# Altium footprint library ATM90E3x-DB.PcbLib: 32 footprints (part 1 of 2)
Each footprint in its own frame and in the unit in brackets; x right, y up, seen from the top. Pads: shape width x height; smd on the part's side, far side on the other; paste and mask are expansions set on the pad; w line width, h text height; cw(c..) or ccw(c..) is an arc to the next point about the centre after c.
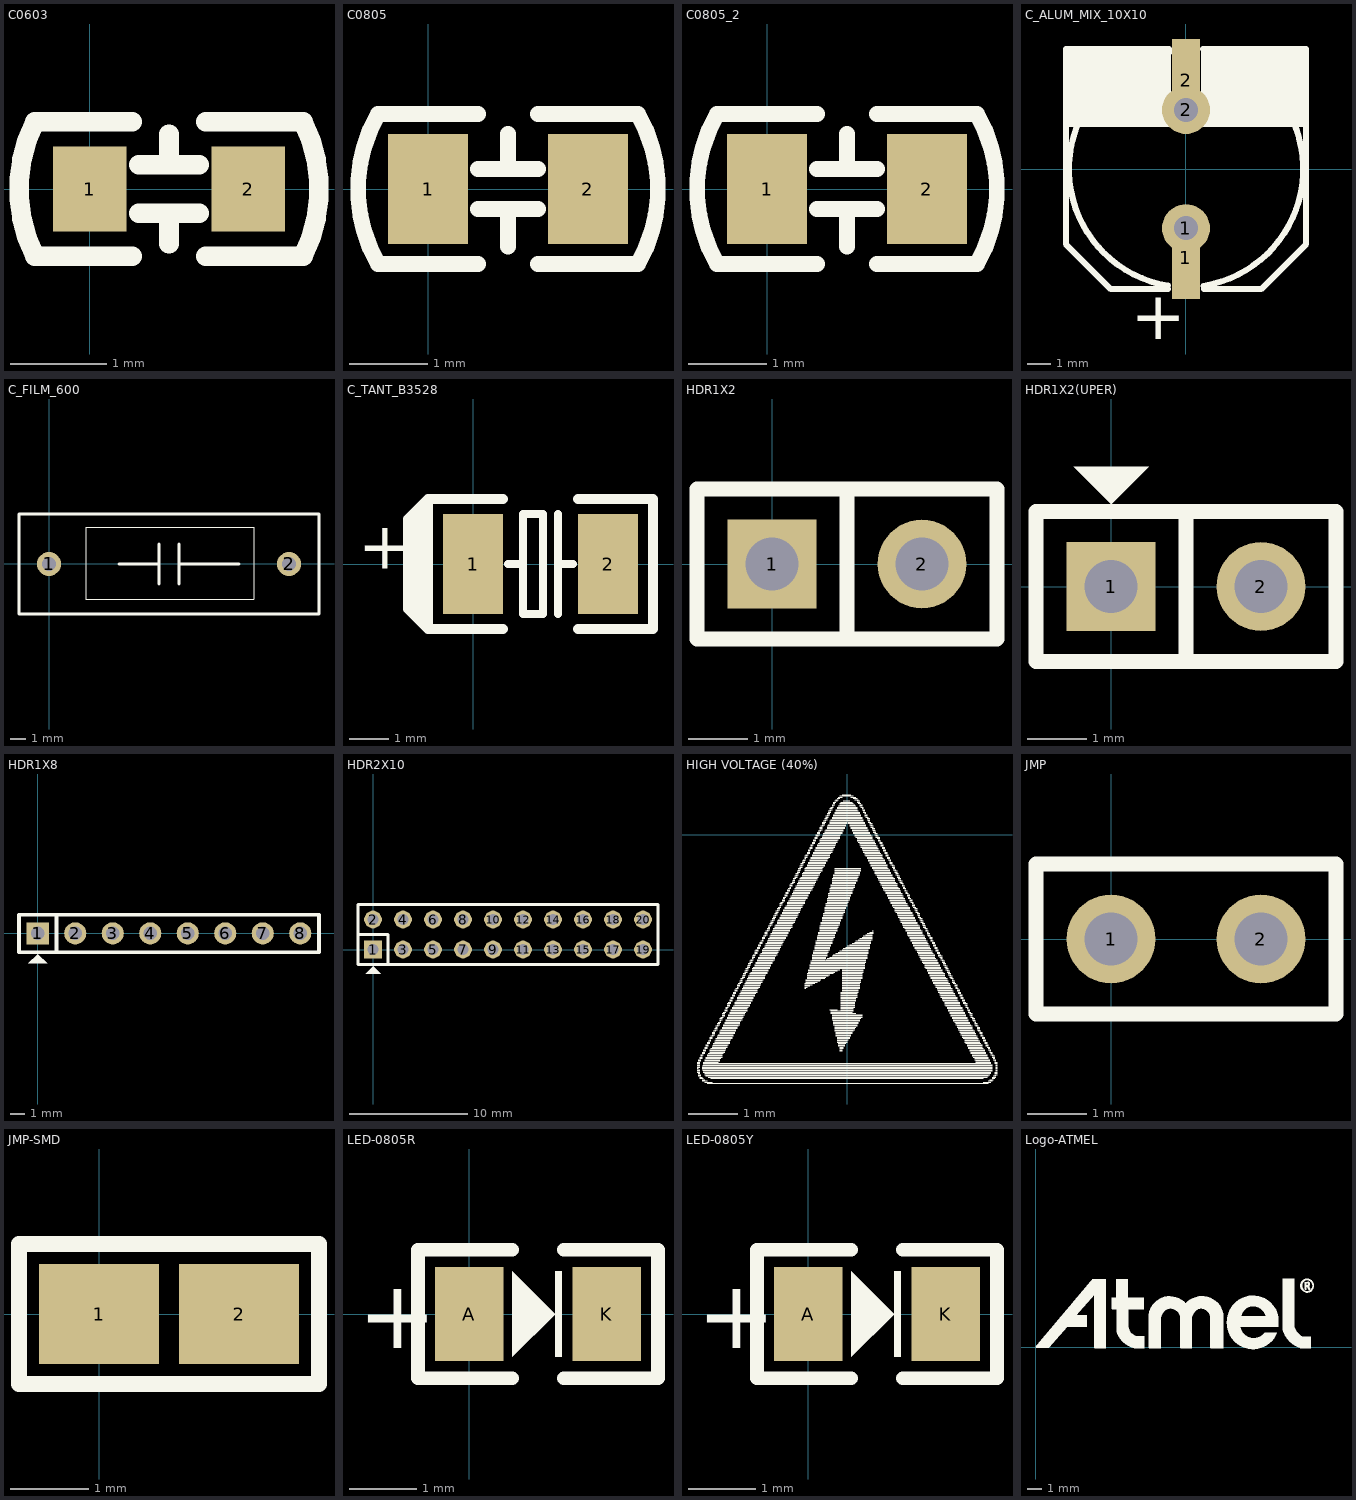
[diagram p0: the footprints below, top view; thin cyan lines are the x and y axes]

## C0603 [mil] "C0603"
height 62.99
pads (2):
  rect 30x35 smd: 1(0,0) 2(65,0)
Top Overlay:
  lines w8: 17.5,-27.5 -22.5,-27.5 cw(c32.5,0) -22.5,27.5 17.5,27.5 ; 20,-10 45,-10 ; 20,10 45,10 ; 32.5,-22.5 32.5,-10 ; 32.5,10 32.5,22.5 ; 47.5,-27.5 87.5,-27.5 ccw(c32.5,0) 87.5,27.5 47.5,27.5
3D body "User Library-CAPC1608X09.step": height 35.43, standoff 0, extent 1,-15.75 64,15.75

## C0805 [mil] "C0805"
height 62.99
pads (2):
  rect 40x55 smd: 1(0,0) 2(80,0)
Top Overlay:
  lines w8: 25,-37.5 -25,-37.5 cw(c40,0) -25,37.5 25,37.5 ; 25,-10 55,-10 ; 25,10 55,10 ; 40,-28.75 40,-11.25 ; 40,10 40,27.5 ; 55,-37.5 105,-37.5 ccw(c40,0) 105,37.5 55,37.5
3D body "User Library-CAPC2013X10.step": height 39.37, standoff 0, extent 0.64,-24.6 79.38,24.61

## C0805_2 [mil]
pads (2):
  rect 40x55 smd: 1(0,0) 2(80,0)
Top Overlay:
  lines w8: 25,-37.5 -25,-37.5 cw(c40,0) -25,37.5 25,37.5 ; 25,-10 55,-10 ; 25,10 55,10 ; 40,-28.75 40,-11.25 ; 40,10 40,27.5 ; 55,-37.5 105,-37.5 ccw(c40,0) 105,37.5 55,37.5
3D body "User Library-CAPC2013X10.step": height 39.37, standoff 0, extent 0.64,-24.6 79.38,24.61

## C_ALUM_MIX_10X10 [mil] "C_ALUM_MIX_10x10"
height 62.99
pads (4):
  rect 47.25x137.79 smd: 1(0,-147.64) 2(0,147.64)
  round 80 hole 40: 1(0,-98.43) 2(0,98.43)
Top Overlay:
  region: 25,197.36 25,77.36 200,77.36 200,197.36
  region: -200,197.36 -200,77.36 -25,77.36 -25,197.36
  lines w10: -200,75 200,75 ; -30.26,-194.2 cw(c1.92,0) -27.21,194.68 ; -30,-200 -125,-200 -200,-125 -200,200 -28,200 ; 28,200 200,200 200,-125 125,-200 30,-200 ; 29.12,-194.43 ccw(c-1.66,0) 30.31,194.24
  text "+" at -92.2,-282.99 h80
3D body "User Library-ALU-G.STEP": height 401.57, standoff 0, extent -202.75,-228.35 202.76,228.35

## C_FILM_600 [mil]
pads (2):
  round 60 hole 36: 1(0,0) 2(600,0)
Top Overlay:
  lines w1: 92,-88 92,92 512,92 512,-88 92,-88
  lines w8: 175,0 275,0 ; 275,-50 275,50 ; 325,-50 325,50 ; 325,0 475,0 ; -75,-125 -75,125 675,125 675,-125 -75,-125
3D body "User Library-Hua Jung MKP-224K0305AB1151-P.step": height 110.63, standoff -492.13, extent -54.33,-118.13 654.33,118.13

## C_TANT_B3528 [mil] "C_TANT_B3528"
height 62.99
pads (2):
  rect 60x100 smd: 1(0,0) 2(135,0)
Top Overlay:
  lines w8: 35,0 50,0 ; 85,-50 85,50 ; 85,0 100,0 ; 50,-50 50,50 70,50 70,-50 50,-50
  lines w10: 30,-65 -45,-65 ; 30,65 -45,65 ; 105,-65 180,-65 180,65 105,65 ; -45,-65 -65,-45 -65,-40 -65,40 -65,45 -45,65 ; -45,-65 -45,65
  lines w16: -55,-50 -55,50
  text "+" at -115,-20 h80
3D body "User Library-CaseB_3528-21.step": height 74.8, standoff 0, extent -1.39,-55.11 136.4,55.12

## HDR1X2 [mm] "Connector; Header; 2 Position"
height 1.6
pads (2):
  rect 1.5x1.5 hole 0.9: 1(0,0)
  round 1.5 hole 0.9: 2(2.54,0)
Top Overlay:
  lines w0.254: 1.27,-1.27 1.27,1.27 ; -1.27,-1.27 3.81,-1.27 3.81,1.27 -1.27,1.27 -1.27,-1.27
3D body "Samtec-2.step": height 8.38, standoff -2.92, extent -1.27,-1.27 3.81,1.27

## HDR1X2(UPER) [mm]
pads (2):
  rect 1.5x1.5 hole 0.9: 1(0,0)
  round 1.5 hole 0.9: 2(2.54,0)
Top Overlay:
  region: 0,1.397 -0.635,2.032 0.635,2.032
  lines w0.254: 1.27,-1.27 1.27,1.27 ; -1.27,-1.27 3.81,-1.27 3.81,1.27 -1.27,1.27 -1.27,-1.27
3D body "Samtec-2.step": height 8.38, standoff -2.92, extent -1.27,-1.27 3.81,1.27

## HDR1X8 [mm] "Connector; Header; 8 Position"
height 1.6
pads (8):
  rect 1.5x1.5 hole 0.9: 1(0,0)
  round 1.5 hole 0.9: 2(2.54,0) 3(5.08,0) 4(7.62,0) 5(10.16,0) 6(12.7,0) 7(15.24,0) 8(17.78,0)
Top Overlay:
  region: 0,-1.397 -0.635,-2.032 0.635,-2.032
  lines w0.254: 1.27,-1.27 1.27,1.27 ; -1.27,-1.27 19.05,-1.27 19.05,1.27 -1.27,1.27 -1.27,-1.27
3D body "Samtec-8.step": height 8.38, standoff -2.92, extent -1.27,-1.27 19.05,1.27

## HDR2X10 [mm]
pads (20):
  rect 1.5x1.5 hole 0.9: 1(0,0)
  round 1.5 hole 0.9: 2(0,2.54) 3(2.54,0) 4(2.54,2.54) 5(5.08,0) 6(5.08,2.54) 7(7.62,0) 8(7.62,2.54) 9(10.16,0) 10(10.16,2.54) 11(12.7,0) 12(12.7,2.54) 13(15.24,0) 14(15.24,2.54) 15(17.78,0) 16(17.78,2.54) 17(20.32,0) 18(20.32,2.54) 19(22.86,0) 20(22.86,2.54)
Top Overlay:
  region: 0,-1.397 -0.635,-2.032 0.635,-2.032
  lines w0.254: -1.27,1.27 1.27,1.27 1.27,-1.27 ; -1.27,-1.27 24.13,-1.27 24.13,3.81 -1.27,3.81 -1.27,-1.27
3D body "female_header_a-bl254-da-g20d.stp": height 5.04, standoff -3.16, extent -1.395,-9.77 24.255,2.83

## HIGH VOLTAGE (40%) [mm]
Top Overlay:
  drawing of 1065 lines, arcs and shapes, not listed

## JMP [mm] "JMP"
height 1.6
pads (2):
  round 1.5 hole 0.9: 1(0,0) 2(2.54,0)
Top Overlay:
  lines w0.254: -1.27,-1.27 3.81,-1.27 3.81,1.27 -1.27,1.27 -1.27,-1.27
3D body "jumper_akspt_g-black.stp": height 8.51, standoff 2.54, extent -1.22,-1.22 3.76,1.22
3D body "Samtec-2.step": height 8.38, standoff -2.92, extent -1.27,-1.27 3.81,1.27

## JMP-SMD [mil] "JMP-SMD"
height 62.99
pads (2):
  rect 60x50 smd: 1(0,0) 2(70,0)
Top Overlay:
  lines w8: -40,-35 110,-35 110,35 -40,35 -40,-35

## LED-0805R [mil] "LED 0805, Red"
pads (2):
  rect 40x55 smd: A(0,0) K(80,0)
Top Overlay:
  rectangle: 50,-25 54,25
  region: 25,25 50,0 25,-25
  lines w8: 25,-37.5 -30,-37.5 -30,37.5 25,37.5 ; 55,-37.5 110,-37.5 110,37.5 55,37.5
  text "+" at -65,-20 h40
3D body "User Library-led_0805R.step": height 43.31, standoff 0, extent 0.24,-24.6 79.77,24.61

## LED-0805Y [mil] "LED 0805, Yellow"
height 62.99
pads (2):
  rect 40x55 smd: A(0,0) K(80,0)
Top Overlay:
  rectangle: 50,-25 54,25
  region: 25,25 50,0 25,-25
  lines w8: 25,-37.5 -30,-37.5 -30,37.5 25,37.5 ; 55,-37.5 110,-37.5 110,37.5 55,37.5
  text "+" at -65,-20 h40
3D body "User Library-led_0805Y.step": height 43.31, standoff 0, extent 0.24,-24.6 79.77,24.61

## Logo-ATMEL [mm]
height 1.6
Top Overlay:
  drawing of 4397 lines, arcs and shapes, not listed